# Altium schematic symbol library Relays.SchLib: 1 symbol
Pins are listed as number, name and electrical type; pins without a type are passive.

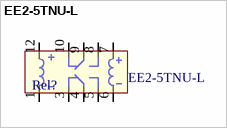
[diagram p0: symbol EE2-5TNU-L]

## EE2-5TNU-L
designator Rel?
Relay 5V DPDT Latching Dual Coil; Manufacturer: KEMET; Part Specification: 5VDC, 2A, 178R; Ordercode: EE2-5TNU-L
pins: 1, 3, 4, 5, 6, 7, 8, 9, 10, 12